# EAGLE library part LMZ10500 (library LMZ10500)
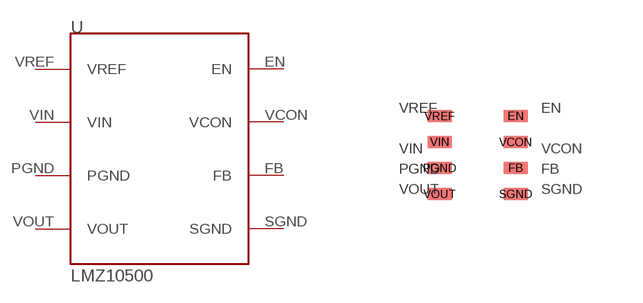
[diagram p0: symbol with the pads of LMZ10500; footprint LMZ10500]

Designator prefix -

## LMZ10500  [LMZ10500]
EN  EN
FB  FB
PGND  PGND
SGND  SGND
VCON  VCON
VIN  VIN
VOUT  VOUT
VREF  VREF

## Footprint LMZ10500 (pad centres in mm)
smd 0.6 x 0.3: EN 1.9,1.95; FB 1.9,0.65; PGND 0,0.65; SGND 1.9,0; VCON 1.9,1.3; VIN 0,1.3; VOUT 0,0; VREF 0,1.95